# EAGLE library part LT3475-1 (library PowerProducts)
LT-Spice library generated with : ltspice.ulp from: E:/Programme/LTC/LTspiceIV/lib/sym/PowerProducts/LT3476*.asy at 05.10.2012 11:16:35
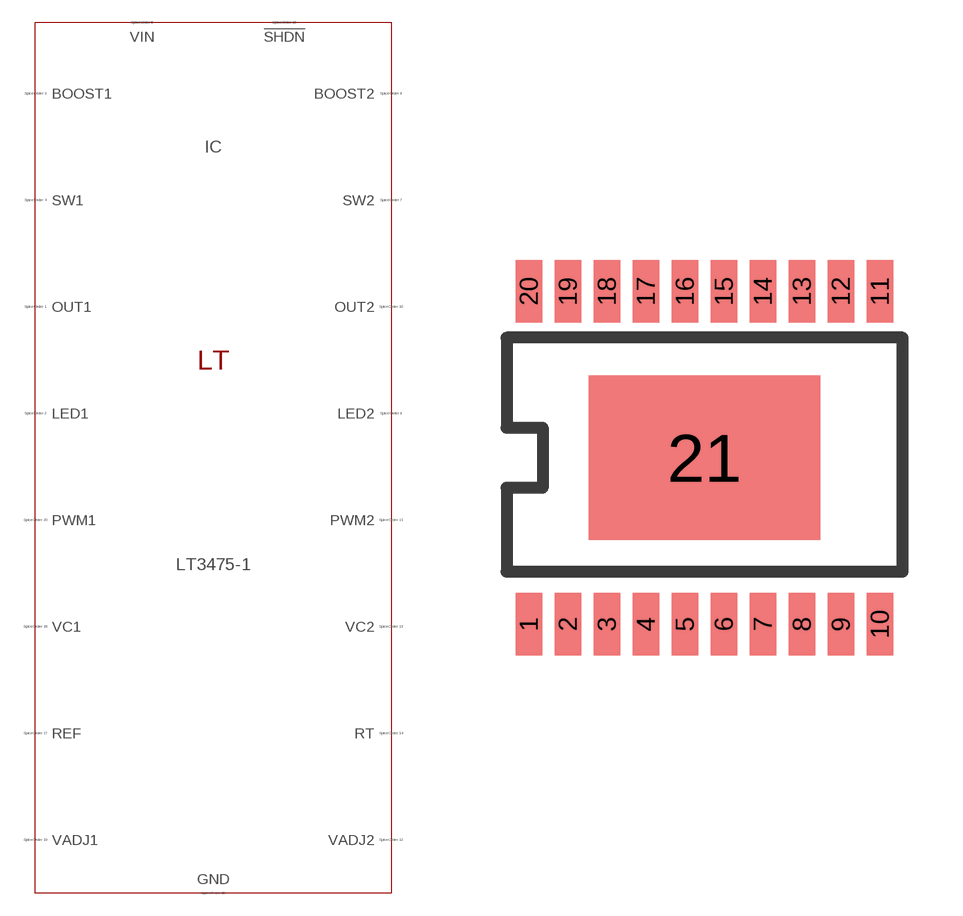
[diagram p40: symbol with the pads of TSSOP20CB(FE); footprint TSSOP20CB(FE)]

Designator prefix IC

## LT3475-1 (SPICEMODEL: LT1762.lib; SPICEPREFIX: X; VALUE2: LT1762)  [TSSOP20CB(FE)]
1  OUT1  pas
2  LED1  pas
3  BOOST1  pas
4  SW1  pas
5  VIN  pas
6  VIN  pas
7  SW2  pas
8  BOOST2  pas
9  LED2  pas
10  OUT2  pas
11  PWM2  pas
12  VADJ2  pas
13  VC2  pas
14  RT  pas
15  GND  pas
16  !SHDN  pas
17  REF  pas
18  VC1  pas
19  VADJ1  pas
20  PWM1  pas
21  GND  pas

## Footprint TSSOP20CB(FE) (pad centres in mm)
Package generated from: TSSOP20CB(FE).asc (!PADS-POWERPCB-V5.0-BASIC! DESIGN DATABASE ASCII FILE 1.0) with :import-pads-powerpcb-v5.ulp Version 1.0.1 at 04.10.2012 14:11:40
smd 0.66 x 1.575: 1 -4.388,-4.162; 2 -3.413,-4.162; 3 -2.438,-4.162; 4 -1.462,-4.162; 5 -0.487,-4.162; 6 0.487,-4.162; 7 1.462,-4.162; 8 2.438,-4.162; 9 3.413,-4.162; 10 4.388,-4.162; 11 4.388,4.162; 12 3.413,4.162; 13 2.438,4.162; 14 1.462,4.162; 15 0.487,4.162; 16 -0.487,4.162; 17 -1.462,4.162; 18 -2.438,4.162; 19 -3.413,4.162; 20 -4.388,4.162
smd 5.79 x 4.11: 21 0,0